# Altium schematic symbol library SCH - CONNECTORS - 1 PIN.SCHLIB: 1 symbol
Pins are listed as number, name and electrical type; pins without a type are passive.

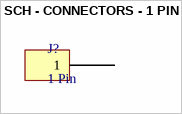
[diagram p0: symbol SCH - CONNECTORS - 1 PIN]

## SCH - CONNECTORS - 1 PIN
designator J?, comment 1 Pin
pins: 1